# EAGLE library part INA226 (library 04_IC)
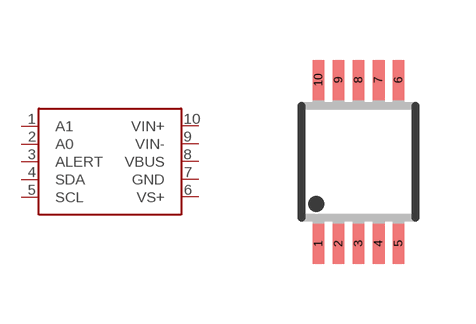
[diagram p11: symbol with the pads of MSOP10; footprint MSOP10]

Designator prefix -

## INA226  [MSOP10]
1  A1
2  A0
3  ALERT
4  SDA
5  SCL
6  VS+
7  GND
8  VBUS
9  VIN-
10  VIN+

## Footprint MSOP10 (pad centres in mm)
10 Lead Platic MSOP Source: http://www.linear.com .. LT1996
smd 0.3 x 1: 1 -1,-2.05; 2 -0.5,-2.05; 3 0,-2.05; 4 0.5,-2.05; 5 1,-2.05; 6 1,2.05; 7 0.5,2.05; 8 0,2.05; 9 -0.5,2.05; 10 -1,2.05